# Altium integrated library 105017-0001.IntLib: 1 symbol
Pins are listed as number, name and electrical type; pins without a type are passive.

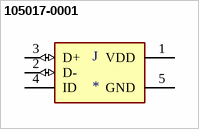
[diagram p0: symbol 105017-0001]

## 105017-0001
designator J
USB - micro B USB 2.0 Receptacle Connector 5 Position Surface Mount, Right Angle; Through Hole; MP: 105017-0001; MF: Molex; Price: None; Package: None; Value: *; Availability: Unavailable; SnapEDA_Link: https://www.snapeda.com/parts/105017-0001/Molex/view-part/281210/?ref=snap
footprint MOLEX_105017-0001
pins: 1 VDD (power), 2 D- (io), 3 D+ (io), 4 ID, 5 GND (power)